# Altium schematic symbol library IC_Microchip_PIC24FJ128GB202-I-SO_eec.SchLib: 1 symbol
Pins are listed as number, name and electrical type; pins without a type are passive.

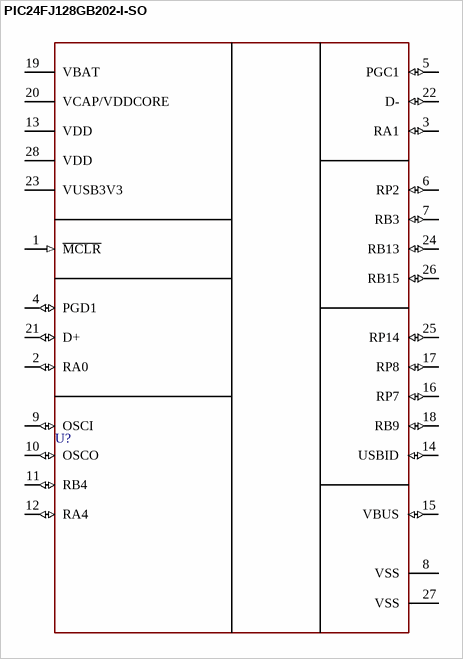
[diagram p0: symbol PIC24FJ128GB202-I-SO]

## PIC24FJ128GB202-I-SO
designator U?  (value not drawn)
footprint Microchip_SO-28_0
pins: 1 ~{MCLR} (in), 2 RA0 (io), 3 RA1 (io), 4 PGD1 (io), 5 PGC1 (io), 6 RP2 (io), 7 RB3 (io), 8 VSS (power), 9 OSCI (io), 10 OSCO (io), 11 RB4 (io), 12 RA4 (io), 13 VDD (power), 14 USBID (io), 15 VBUS (io), 16 RP7 (io), 17 RP8 (io), 18 RB9 (io), 19 VBAT (power), 20 VCAP/VDDCORE (power), 21 D+ (io), 22 D- (io), 23 VUSB3V3 (power), 24 RB13 (io), 25 RP14 (io), 26 RB15 (io), 27 VSS (power), 28 VDD (power)